# Altium integrated library NSC Power Mgt Switching Regulator.IntLib: 201 symbols (part 1 of 4)
Pins are listed as number, name and electrical type; pins without a type are passive.

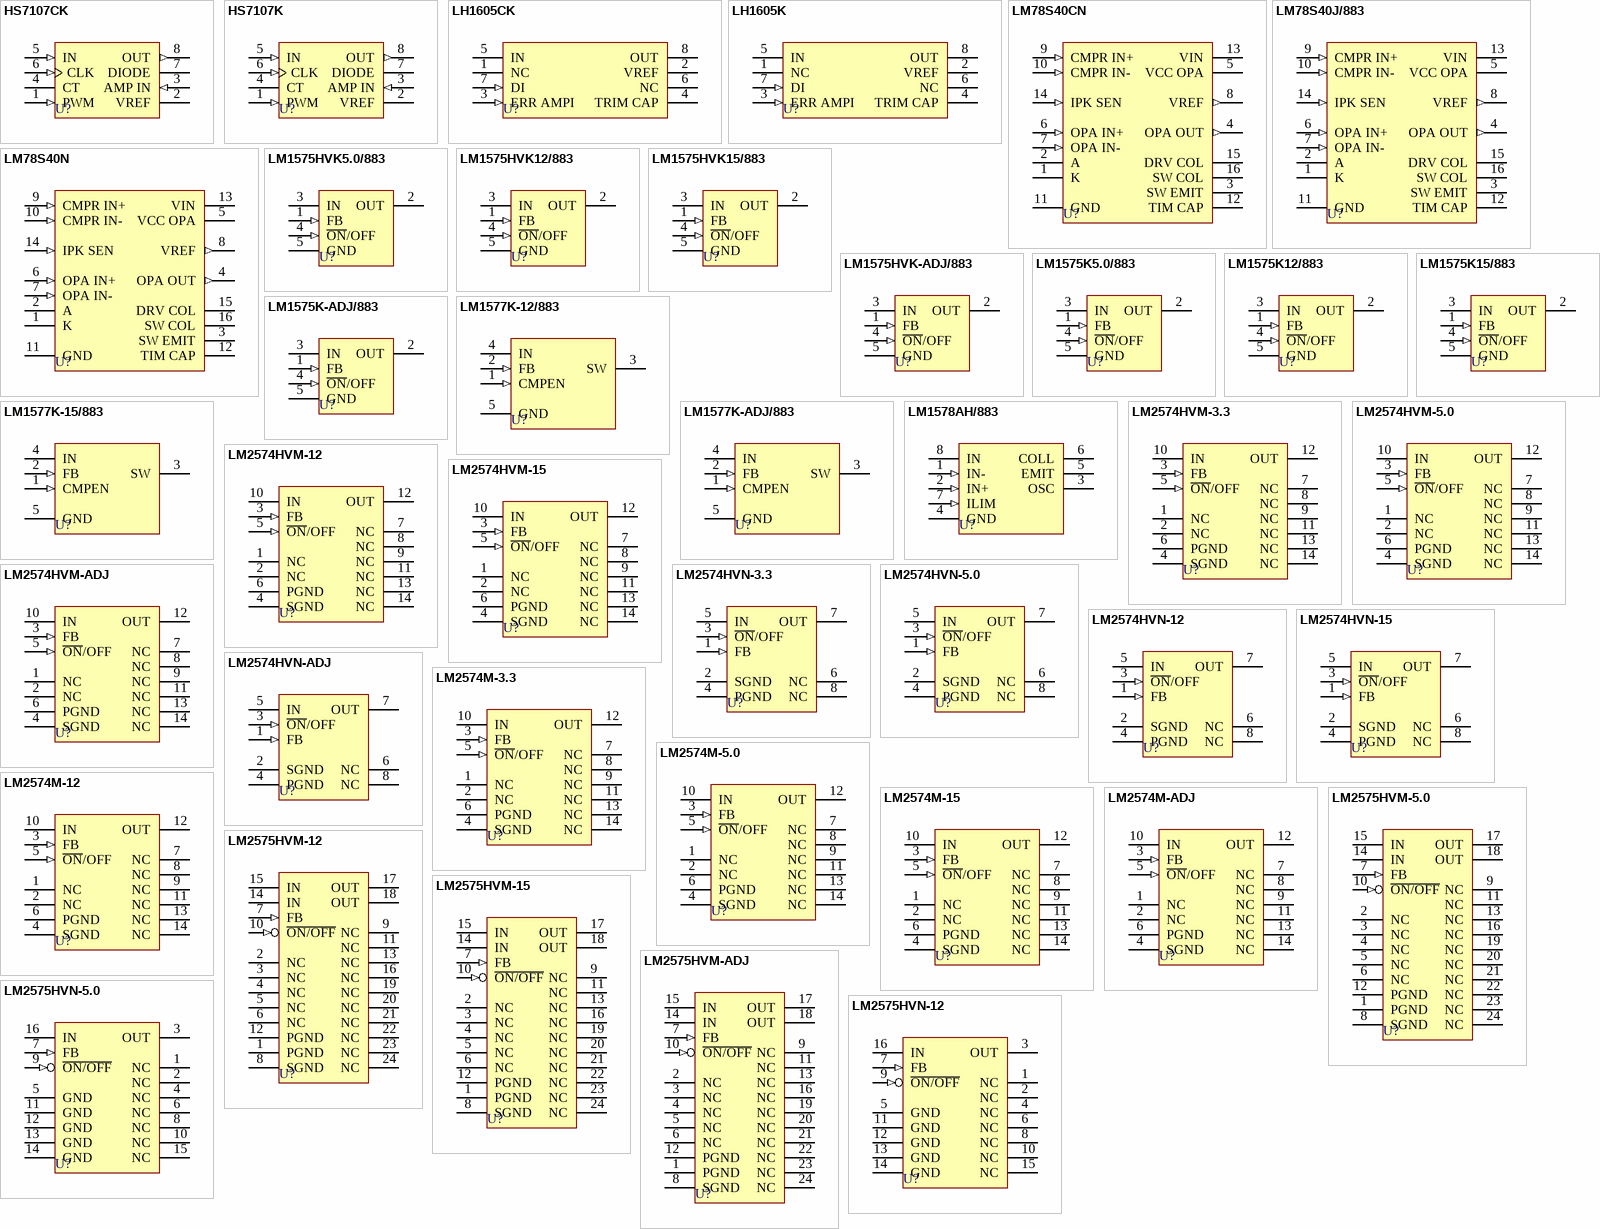
[diagram p0: symbols HS7107CK to LM2575HVN-12]

## HS7107CK
designator U?
7 Amp, Multimode, High Efficiency Switching Regulator; ComponentAvailability: Obsolete; Published: 15-Apr-2002; DatasheetVersion: 1989; PackageReference: K08A; Publisher: Altium Limited; PackageDescription: Oval Flange Mount; 8 Leads; Pin Circle Dia. 12.7 mm; Lead Dia. 1.12 mm (max); ComponentLink1Description: Manufacturer Link; ComponentLink1URL: http://www.national.com/; ComponentLink2Description: Discontinuation Notice; ComponentLink2URL: http://www.national.com/obs/obsolescence.txt
footprint K08A (Oval Flange Mount; 8 Leads; Pin Circle Dia. 12.7 mm; Lead Dia. 1.12 mm (max))
pins: 1 PWM (in), 2 VREF, 3 AMP IN (in), 4 CT, 5 IN (in), 6 CLK (in), 7 DIODE, 8 OUT (out)

## HS7107K
designator U?
7 Amp, Multimode, High Efficiency Switching Regulator; Note: Case is connected to GND; ComponentAvailability: Obsolete; Published: 15-Apr-2002; DatasheetVersion: 1989; PackageReference: K08A; Publisher: Altium Limited; PackageDescription: Oval Flange Mount; 8 Leads; Pin Circle Dia. 12.7 mm; Lead Dia. 1.12 mm (max); ComponentLink1Description: Manufacturer Link; ComponentLink1URL: http://www.national.com/; ComponentLink2Description: Discontinuation Notice; ComponentLink2URL: http://www.national.com/obs/obsolescence.txt
footprint K08A (Oval Flange Mount; 8 Leads; Pin Circle Dia. 12.7 mm; Lead Dia. 1.12 mm (max))
pins: 1 PWM (in), 2 VREF, 3 AMP IN (in), 4 CT, 5 IN (in), 6 CLK (in), 7 DIODE, 8 OUT (out)

## LH1605CK
designator U?
5 Amp, High Efficiency Switching Regulator; Note: Case is connected to GND; Published: 15-Apr-2002; DatasheetVersion: Feb-1995; PackageReference: K08A; Publisher: Altium Limited; PackageDescription: Oval Flange Mount; 8 Leads; Pin Circle Dia. 12.7 mm; Lead Dia. 1.12 mm (max); ComponentLink1Description: Manufacturer Link; ComponentLink1URL: http://www.national.com/
footprint K08A (Oval Flange Mount; 8 Leads; Pin Circle Dia. 12.7 mm; Lead Dia. 1.12 mm (max))
pins: 1 NC, 2 VREF, 3 ERR AMPI (in), 4 TRIM CAP, 5 IN (power), 6 NC, 7 DI (in), 8 OUT (power)

## LH1605K
designator U?
5 Amp, High Efficiency Switching Regulator; Note: Case is connected to GND; Published: 15-Apr-2002; DatasheetVersion: Feb-1995; PackageReference: K08A; Publisher: Altium Limited; PackageDescription: Oval Flange Mount; 8 Leads; Pin Circle Dia. 12.7 mm; Lead Dia. 1.12 mm (max); ComponentLink1Description: Manufacturer Link; ComponentLink1URL: http://www.national.com/
footprint K08A (Oval Flange Mount; 8 Leads; Pin Circle Dia. 12.7 mm; Lead Dia. 1.12 mm (max))
pins: 1 NC, 2 VREF, 3 ERR AMPI (in), 4 TRIM CAP, 5 IN (power), 6 NC, 7 DI (in), 8 OUT (power)

## LM78S40CN
designator U?
Universal Switching Regulator Subsystem; Published: 15-Apr-2002; LatestRevisionDate: 06-Jun-2005; LatestRevisionNote: Stylized 3D Model Added.; DatasheetVersion: Apr-1998; PackageVersion: 2000; PackageReference: N16E; Publisher: Altium Limited; PackageDescription: DIP; 16 Leads; Row Spacing 7.62 mm; Pitch 2.54 mm; ComponentLink1Description: Manufacturer Link; ComponentLink1URL: http://www.national.com/; ComponentLink2Description: Datasheet; ComponentLink2URL: http://www.national.com/ds.cgi/LM/LM78S40.pdf; ComponentLink3Description: URL Link1; ComponentLink3URL: http://www.national.com/pf/LM/LM78S40.html
footprint N16E (DIP; 16 Leads; Row Spacing 7.62 mm; Pitch 2.54 mm)
3D model N16E (DIP; 16 Leads; Row Spacing 7.62 mm; Pitch 2.54 mm)
pins: 1 K, 2 A, 3 SW EMIT, 4 OPA OUT (out), 5 VCC OPA (power), 6 OPA IN+ (in), 7 OPA IN- (in), 8 VREF (out), 9 CMPR IN+ (in), 10 CMPR IN- (in), 11 GND (power), 12 TIM CAP, 13 VIN (power), 14 IPK SEN (in), 15 DRV COL (oc), 16 SW COL (oc)

## LM78S40J/883
designator U?
Universal Switching Regulator Subsystem; Published: 15-Apr-2002; LatestRevisionDate: 06-Jun-2005; LatestRevisionNote: Stylized 3D Model Added.; DatasheetVersion: Apr-1998; PackageVersion: 2000; PackageReference: J16A; Publisher: Altium Limited; PackageDescription: DIP; 16 Leads; Row Spacing 7.62 mm; Pitch 2.54 mm; ComponentLink1Description: Manufacturer Link; ComponentLink1URL: http://www.national.com/; ComponentLink2Description: Datasheet; ComponentLink2URL: http://www.national.com/ds.cgi/LM/LM78S40.pdf; ComponentLink3Description: URL Link1; ComponentLink3URL: http://www.national.com/pf/LM/LM78S40.html
footprint J16A (DIP; 16 Leads; Row Spacing 7.62 mm; Pitch 2.54 mm)
3D model N16E (DIP; 16 Leads; Row Spacing 7.62 mm; Pitch 2.54 mm)
pins: 1 K, 2 A, 3 SW EMIT, 4 OPA OUT (out), 5 VCC OPA (power), 6 OPA IN+ (in), 7 OPA IN- (in), 8 VREF (out), 9 CMPR IN+ (in), 10 CMPR IN- (in), 11 GND (power), 12 TIM CAP, 13 VIN (power), 14 IPK SEN (in), 15 DRV COL (oc), 16 SW COL (oc)

## LM78S40N
designator U?
Universal Switching Regulator Subsystem; Published: 15-Apr-2002; LatestRevisionDate: 06-Jun-2005; LatestRevisionNote: Stylized 3D Model Added.; DatasheetVersion: Apr-1998; PackageVersion: 2000; PackageReference: N16E; Publisher: Altium Limited; PackageDescription: DIP; 16 Leads; Row Spacing 7.62 mm; Pitch 2.54 mm; ComponentLink1Description: Manufacturer Link; ComponentLink1URL: http://www.national.com/; ComponentLink2Description: Datasheet; ComponentLink2URL: http://www.national.com/ds.cgi/LM/LM78S40.pdf; ComponentLink3Description: URL Link1; ComponentLink3URL: http://www.national.com/pf/LM/LM78S40.html
footprint N16E (DIP; 16 Leads; Row Spacing 7.62 mm; Pitch 2.54 mm)
3D model N16E (DIP; 16 Leads; Row Spacing 7.62 mm; Pitch 2.54 mm)
pins: 1 K, 2 A, 3 SW EMIT, 4 OPA OUT (out), 5 VCC OPA (power), 6 OPA IN+ (in), 7 OPA IN- (in), 8 VREF (out), 9 CMPR IN+ (in), 10 CMPR IN- (in), 11 GND (power), 12 TIM CAP, 13 VIN (power), 14 IPK SEN (in), 15 DRV COL (oc), 16 SW COL (oc)

## LM1575HVK5.0/883
designator U?
Simple Switcher 1A Step Down Voltage Regulator; Published: 15-Apr-2002; DatasheetVersion: Jan-1995; PackageVersion: 2000; PackageReference: K04A; Publisher: Altium Limited; PackageDescription: Oval Flange Mount; 4 Leads; Pin Circle Dia. 11.94 mm; Lead Dia. 1.09 mm (max); ComponentLink1Description: Manufacturer Link; ComponentLink1URL: http://www.national.com/
footprint K04A (Oval Flange Mount; 4 Leads; Pin Circle Dia. 11.94 mm; Lead Dia. 1.09 mm (max))
pins: 1 FB (in), 2 OUT (power), 3 IN (power), 4 ~{ON}/OFF (in), 5 GND (power)

## LM1575HVK12/883
designator U?
Simple Switcher 1A Step Down Voltage Regulator; Published: 15-Apr-2002; DatasheetVersion: Jan-1995; PackageVersion: 2000; PackageReference: K04A; Publisher: Altium Limited; PackageDescription: Oval Flange Mount; 4 Leads; Pin Circle Dia. 11.94 mm; Lead Dia. 1.09 mm (max); ComponentLink1Description: Manufacturer Link; ComponentLink1URL: http://www.national.com/
footprint K04A (Oval Flange Mount; 4 Leads; Pin Circle Dia. 11.94 mm; Lead Dia. 1.09 mm (max))
pins: 1 FB (in), 2 OUT (power), 3 IN (power), 4 ~{ON}/OFF (in), 5 GND (power)

## LM1575HVK15/883
designator U?
Simple Switcher 1A Step Down Voltage Regulator; Published: 15-Apr-2002; DatasheetVersion: Jan-1995; PackageVersion: 2000; PackageReference: K04A; Publisher: Altium Limited; PackageDescription: Oval Flange Mount; 4 Leads; Pin Circle Dia. 11.94 mm; Lead Dia. 1.09 mm (max); ComponentLink1Description: Manufacturer Link; ComponentLink1URL: http://www.national.com/
footprint K04A (Oval Flange Mount; 4 Leads; Pin Circle Dia. 11.94 mm; Lead Dia. 1.09 mm (max))
pins: 1 FB (in), 2 OUT (power), 3 IN (power), 4 ~{ON}/OFF (in), 5 GND (power)

## LM1575HVK-ADJ/883
designator U?
Simple Switcher 1A Step Down Voltage Regulator; Published: 15-Apr-2002; DatasheetVersion: Jan-1995; PackageVersion: 2000; PackageReference: K04A; Publisher: Altium Limited; PackageDescription: Oval Flange Mount; 4 Leads; Pin Circle Dia. 11.94 mm; Lead Dia. 1.09 mm (max); ComponentLink1Description: Manufacturer Link; ComponentLink1URL: http://www.national.com/
footprint K04A (Oval Flange Mount; 4 Leads; Pin Circle Dia. 11.94 mm; Lead Dia. 1.09 mm (max))
pins: 1 FB (in), 2 OUT (power), 3 IN (power), 4 ~{ON}/OFF (in), 5 GND (power)

## LM1575K5.0/883
designator U?
Simple Switcher 1A Step Down Voltage Regulator; Published: 15-Apr-2002; DatasheetVersion: Jan-1995; PackageVersion: 2000; PackageReference: K04A; Publisher: Altium Limited; PackageDescription: Oval Flange Mount; 4 Leads; Pin Circle Dia. 11.94 mm; Lead Dia. 1.09 mm (max); ComponentLink1Description: Manufacturer Link; ComponentLink1URL: http://www.national.com/
footprint K04A (Oval Flange Mount; 4 Leads; Pin Circle Dia. 11.94 mm; Lead Dia. 1.09 mm (max))
pins: 1 FB (in), 2 OUT (power), 3 IN (power), 4 ~{ON}/OFF (in), 5 GND (power)

## LM1575K12/883
designator U?
Simple Switcher 1A Step Down Voltage Regulator; Published: 15-Apr-2002; DatasheetVersion: Jan-1995; PackageVersion: 2000; PackageReference: K04A; Publisher: Altium Limited; PackageDescription: Oval Flange Mount; 4 Leads; Pin Circle Dia. 11.94 mm; Lead Dia. 1.09 mm (max); ComponentLink1Description: Manufacturer Link; ComponentLink1URL: http://www.national.com/
footprint K04A (Oval Flange Mount; 4 Leads; Pin Circle Dia. 11.94 mm; Lead Dia. 1.09 mm (max))
pins: 1 FB (in), 2 OUT (power), 3 IN (power), 4 ~{ON}/OFF (in), 5 GND (power)

## LM1575K15/883
designator U?
Simple Switcher 1A Step Down Voltage Regulator; Published: 15-Apr-2002; DatasheetVersion: Jan-1995; PackageVersion: 2000; PackageReference: K04A; Publisher: Altium Limited; PackageDescription: Oval Flange Mount; 4 Leads; Pin Circle Dia. 11.94 mm; Lead Dia. 1.09 mm (max); ComponentLink1Description: Manufacturer Link; ComponentLink1URL: http://www.national.com/
footprint K04A (Oval Flange Mount; 4 Leads; Pin Circle Dia. 11.94 mm; Lead Dia. 1.09 mm (max))
pins: 1 FB (in), 2 OUT (power), 3 IN (power), 4 ~{ON}/OFF (in), 5 GND (power)

## LM1575K-ADJ/883
designator U?
Simple Switcher 1A Step Down Voltage Regulator; Published: 15-Apr-2002; DatasheetVersion: Jan-1995; PackageVersion: 2000; PackageReference: K04A; Publisher: Altium Limited; PackageDescription: Oval Flange Mount; 4 Leads; Pin Circle Dia. 11.94 mm; Lead Dia. 1.09 mm (max); ComponentLink1Description: Manufacturer Link; ComponentLink1URL: http://www.national.com/
footprint K04A (Oval Flange Mount; 4 Leads; Pin Circle Dia. 11.94 mm; Lead Dia. 1.09 mm (max))
pins: 1 FB (in), 2 OUT (power), 3 IN (power), 4 ~{ON}/OFF (in), 5 GND (power)

## LM1577K-12/883
designator U?
Simple Switcher Step-Up Voltage Regulator; Note: Case is connected to GND; Published: 15-Apr-2002; DatasheetVersion: Jun-1999; PackageVersion: 2000; PackageReference: K04A; Publisher: Altium Limited; PackageDescription: Oval Flange Mount; 4 Leads; Pin Circle Dia. 11.94 mm; Lead Dia. 1.09 mm (max); ComponentLink1Description: Manufacturer Link; ComponentLink1URL: http://www.national.com/; ComponentLink2Description: Datasheet; ComponentLink2URL: http://www.national.com/ds.cgi/LM/LM1577.pdf; ComponentLink3Description: URL Link1; ComponentLink3URL: http://www.national.com/pf/LM/LM1577.html
footprint K04A (Oval Flange Mount; 4 Leads; Pin Circle Dia. 11.94 mm; Lead Dia. 1.09 mm (max))
pins: 1 CMPEN (in), 2 FB (in), 3 SW (power), 4 IN (power), 5 GND (power)

## LM1577K-15/883
designator U?
Simple Switcher Step-Up Voltage Regulator; Note: Case is connected to GND; Published: 15-Apr-2002; DatasheetVersion: Jun-1999; PackageVersion: 2000; PackageReference: K04A; Publisher: Altium Limited; PackageDescription: Oval Flange Mount; 4 Leads; Pin Circle Dia. 11.94 mm; Lead Dia. 1.09 mm (max); ComponentLink1Description: Manufacturer Link; ComponentLink1URL: http://www.national.com/; ComponentLink2Description: Datasheet; ComponentLink2URL: http://www.national.com/ds.cgi/LM/LM1577.pdf; ComponentLink3Description: URL Link1; ComponentLink3URL: http://www.national.com/pf/LM/LM1577.html
footprint K04A (Oval Flange Mount; 4 Leads; Pin Circle Dia. 11.94 mm; Lead Dia. 1.09 mm (max))
pins: 1 CMPEN (in), 2 FB (in), 3 SW (power), 4 IN (power), 5 GND (power)

## LM1577K-ADJ/883
designator U?
Simple Switcher Step-Up Voltage Regulator; Note: Case is connected to GND; Published: 15-Apr-2002; DatasheetVersion: Jun-1999; PackageVersion: 2000; PackageReference: K04A; Publisher: Altium Limited; PackageDescription: Oval Flange Mount; 4 Leads; Pin Circle Dia. 11.94 mm; Lead Dia. 1.09 mm (max); ComponentLink1Description: Manufacturer Link; ComponentLink1URL: http://www.national.com/; ComponentLink2Description: Datasheet; ComponentLink2URL: http://www.national.com/ds.cgi/LM/LM1577.pdf; ComponentLink3Description: URL Link1; ComponentLink3URL: http://www.national.com/pf/LM/LM1577.html
footprint K04A (Oval Flange Mount; 4 Leads; Pin Circle Dia. 11.94 mm; Lead Dia. 1.09 mm (max))
pins: 1 CMPEN (in), 2 FB (in), 3 SW (power), 4 IN (power), 5 GND (power)

## LM1578AH/883
designator U?
Switching Regulator; ComponentAvailability: Obsolete; Published: 15-Apr-2002; DatasheetVersion: Apr-1998; PackageVersion: 2000; PackageReference: H08C; Publisher: Altium Limited; PackageDescription: Can; 8 Leads; Pin Circle Dia. 5.08 mm; Lead Dia. 0.48 mm (max); ComponentLink1Description: Manufacturer Link; ComponentLink1URL: http://www.national.com/; ComponentLink2Description: Discontinuation Notice; ComponentLink2URL: http://www.national.com/obs/obsolescence.txt
footprint H08C (Can; 8 Leads; Pin Circle Dia. 5.08 mm; Lead Dia. 0.48 mm (max))
pins: 1 IN- (in), 2 IN+ (in), 3 OSC, 4 GND (power), 5 EMIT (power), 6 COLL (power), 7 ILIM (in), 8 IN (power)

## LM2574HVM-3.3
designator U?
Simple Switcher 0.5A Step Down Voltage Regulator; Published: 15-Apr-2002; LatestRevisionDate: 13-Apr-2006; LatestRevisionNote: IPC-7351 Footprint Added.; DatasheetVersion: Jun-1999; PackageVersion: 2000; PackageReference: M14B; Publisher: Altium Limited; PackageDescription: 14-Pin Small Outline Integrated Circuit 1.27 mm Pitch; Code_JEDEC: MS-013-AF; Code_IPC: SOIC127P1030-14; ComponentLink1Description: Manufacturer Link; ComponentLink1URL: http://www.national.com/; ComponentLink2Description: Datasheet; ComponentLink2URL: http://www.national.com/ds.cgi/LM/LM2574.pdf; ComponentLink3Description: URL Link1; ComponentLink3URL: http://www.national.com/pf/LM/LM2574HV.html
footprint M14B_N (SOIC, 14-Leads, Body 9x7.5mm, Pitch 1.27mm, IPC Medium Density)
footprint M14B_L (SOIC, 14-Leads, Body 9x7.5mm, Pitch 1.27mm, IPC High Density)
footprint M14B_M (SOIC, 14-Leads, Body 9x7.5mm, Pitch 1.27mm, IPC Low Density)
3D model M14B (14-Pin Small Outline Integrated Circuit 1.27 mm Pitch)
pins: 1 NC, 2 NC, 3 FB (in), 4 SGND (power), 5 ~{ON}/OFF (in), 6 PGND (power), 7 NC, 8 NC, 9 NC, 10 IN (power), 11 NC, 12 OUT (power), 13 NC, 14 NC

## LM2574HVM-5.0
designator U?
Simple Switcher 0.5A Step Down Voltage Regulator; Published: 15-Apr-2002; LatestRevisionDate: 13-Apr-2006; LatestRevisionNote: IPC-7351 Footprint Added.; DatasheetVersion: Jun-1999; PackageVersion: 2000; PackageReference: M14B; Publisher: Altium Limited; PackageDescription: 14-Pin Small Outline Integrated Circuit 1.27 mm Pitch; Code_JEDEC: MS-013-AF; Code_IPC: SOIC127P1030-14; ComponentLink1Description: Manufacturer Link; ComponentLink1URL: http://www.national.com/; ComponentLink2Description: Datasheet; ComponentLink2URL: http://www.national.com/ds.cgi/LM/LM2574.pdf; ComponentLink3Description: URL Link1; ComponentLink3URL: http://www.national.com/pf/LM/LM2574HV.html
footprint M14B_N (SOIC, 14-Leads, Body 9x7.5mm, Pitch 1.27mm, IPC Medium Density)
footprint M14B_L (SOIC, 14-Leads, Body 9x7.5mm, Pitch 1.27mm, IPC High Density)
footprint M14B_M (SOIC, 14-Leads, Body 9x7.5mm, Pitch 1.27mm, IPC Low Density)
3D model M14B (14-Pin Small Outline Integrated Circuit 1.27 mm Pitch)
pins: 1 NC, 2 NC, 3 FB (in), 4 SGND (power), 5 ~{ON}/OFF (in), 6 PGND (power), 7 NC, 8 NC, 9 NC, 10 IN (power), 11 NC, 12 OUT (power), 13 NC, 14 NC

## LM2574HVM-12
designator U?
Simple Switcher 0.5A Step Down Voltage Regulator; Published: 15-Apr-2002; LatestRevisionDate: 13-Apr-2006; LatestRevisionNote: IPC-7351 Footprint Added.; DatasheetVersion: Jun-1999; PackageVersion: 2000; PackageReference: M14B; Publisher: Altium Limited; PackageDescription: 14-Pin Small Outline Integrated Circuit 1.27 mm Pitch; Code_JEDEC: MS-013-AF; Code_IPC: SOIC127P1030-14; ComponentLink1Description: Manufacturer Link; ComponentLink1URL: http://www.national.com/; ComponentLink2Description: Datasheet; ComponentLink2URL: http://www.national.com/ds.cgi/LM/LM2574.pdf; ComponentLink3Description: URL Link1; ComponentLink3URL: http://www.national.com/pf/LM/LM2574HV.html
footprint M14B_N (SOIC, 14-Leads, Body 9x7.5mm, Pitch 1.27mm, IPC Medium Density)
footprint M14B_L (SOIC, 14-Leads, Body 9x7.5mm, Pitch 1.27mm, IPC High Density)
footprint M14B_M (SOIC, 14-Leads, Body 9x7.5mm, Pitch 1.27mm, IPC Low Density)
3D model M14B (14-Pin Small Outline Integrated Circuit 1.27 mm Pitch)
pins: 1 NC, 2 NC, 3 FB (in), 4 SGND (power), 5 ~{ON}/OFF (in), 6 PGND (power), 7 NC, 8 NC, 9 NC, 10 IN (power), 11 NC, 12 OUT (power), 13 NC, 14 NC

## LM2574HVM-15
designator U?
Simple Switcher 0.5A Step Down Voltage Regulator; Published: 15-Apr-2002; LatestRevisionDate: 13-Apr-2006; LatestRevisionNote: IPC-7351 Footprint Added.; DatasheetVersion: Jun-1999; PackageVersion: 2000; PackageReference: M14B; Publisher: Altium Limited; PackageDescription: 14-Pin Small Outline Integrated Circuit 1.27 mm Pitch; Code_JEDEC: MS-013-AF; Code_IPC: SOIC127P1030-14; ComponentLink1Description: Manufacturer Link; ComponentLink1URL: http://www.national.com/; ComponentLink2Description: Datasheet; ComponentLink2URL: http://www.national.com/ds.cgi/LM/LM2574.pdf; ComponentLink3Description: URL Link1; ComponentLink3URL: http://www.national.com/pf/LM/LM2574HV.html
footprint M14B_N (SOIC, 14-Leads, Body 9x7.5mm, Pitch 1.27mm, IPC Medium Density)
footprint M14B_L (SOIC, 14-Leads, Body 9x7.5mm, Pitch 1.27mm, IPC High Density)
footprint M14B_M (SOIC, 14-Leads, Body 9x7.5mm, Pitch 1.27mm, IPC Low Density)
3D model M14B (14-Pin Small Outline Integrated Circuit 1.27 mm Pitch)
pins: 1 NC, 2 NC, 3 FB (in), 4 SGND (power), 5 ~{ON}/OFF (in), 6 PGND (power), 7 NC, 8 NC, 9 NC, 10 IN (power), 11 NC, 12 OUT (power), 13 NC, 14 NC

## LM2574HVM-ADJ
designator U?
Simple Switcher 0.5A Step Down Voltage Regulator; Published: 15-Apr-2002; LatestRevisionDate: 13-Apr-2006; LatestRevisionNote: IPC-7351 Footprint Added.; DatasheetVersion: Jun-1999; PackageVersion: 2000; PackageReference: M14B; Publisher: Altium Limited; PackageDescription: 14-Pin Small Outline Integrated Circuit 1.27 mm Pitch; Code_JEDEC: MS-013-AF; Code_IPC: SOIC127P1030-14; ComponentLink1Description: Manufacturer Link; ComponentLink1URL: http://www.national.com/; ComponentLink2Description: Datasheet; ComponentLink2URL: http://www.national.com/ds.cgi/LM/LM2574.pdf; ComponentLink3Description: URL Link1; ComponentLink3URL: http://www.national.com/pf/LM/LM2574HV.html
footprint M14B_N (SOIC, 14-Leads, Body 9x7.5mm, Pitch 1.27mm, IPC Medium Density)
footprint M14B_L (SOIC, 14-Leads, Body 9x7.5mm, Pitch 1.27mm, IPC High Density)
footprint M14B_M (SOIC, 14-Leads, Body 9x7.5mm, Pitch 1.27mm, IPC Low Density)
3D model M14B (14-Pin Small Outline Integrated Circuit 1.27 mm Pitch)
pins: 1 NC, 2 NC, 3 FB (in), 4 SGND (power), 5 ~{ON}/OFF (in), 6 PGND (power), 7 NC, 8 NC, 9 NC, 10 IN (power), 11 NC, 12 OUT (power), 13 NC, 14 NC

## LM2574HVN-3.3
designator U?
Simple Switcher 0.5A Step Down Voltage Regulator; Published: 15-Apr-2002; LatestRevisionDate: 06-Jun-2005; LatestRevisionNote: Stylized 3D Model Added.; DatasheetVersion: Jun-1999; PackageVersion: Sep-1997; PackageReference: N08E; Publisher: Altium Limited; PackageDescription: DIP; 8 Leads; Row Spacing 7.62 mm; Pitch 2.54 mm; ComponentLink1Description: Manufacturer Link; ComponentLink1URL: http://www.national.com/; ComponentLink2Description: Datasheet; ComponentLink2URL: http://www.national.com/ds.cgi/LM/LM2574.pdf; ComponentLink3Description: URL Link1; ComponentLink3URL: http://www.national.com/pf/LM/LM2574HV.html
footprint N08E (DIP; 8 Leads; Row Spacing 7.62 mm; Pitch 2.54 mm)
3D model N08E (DIP; 8 Leads; Row Spacing 7.62 mm; Pitch 2.54 mm)
pins: 1 FB (in), 2 SGND (power), 3 ~{ON}/OFF (in), 4 PGND (power), 5 IN (power), 6 NC, 7 OUT (power), 8 NC

## LM2574HVN-5.0
designator U?
Simple Switcher 0.5A Step Down Voltage Regulator; Published: 15-Apr-2002; LatestRevisionDate: 06-Jun-2005; LatestRevisionNote: Stylized 3D Model Added.; DatasheetVersion: Jun-1999; PackageVersion: Sep-1997; PackageReference: N08E; Publisher: Altium Limited; PackageDescription: DIP; 8 Leads; Row Spacing 7.62 mm; Pitch 2.54 mm; ComponentLink1Description: Manufacturer Link; ComponentLink1URL: http://www.national.com/; ComponentLink2Description: Datasheet; ComponentLink2URL: http://www.national.com/ds.cgi/LM/LM2574.pdf; ComponentLink3Description: URL Link1; ComponentLink3URL: http://www.national.com/pf/LM/LM2574HV.html
footprint N08E (DIP; 8 Leads; Row Spacing 7.62 mm; Pitch 2.54 mm)
3D model N08E (DIP; 8 Leads; Row Spacing 7.62 mm; Pitch 2.54 mm)
pins: 1 FB (in), 2 SGND (power), 3 ~{ON}/OFF (in), 4 PGND (power), 5 IN (power), 6 NC, 7 OUT (power), 8 NC

## LM2574HVN-12
designator U?
Simple Switcher 0.5A Step Down Voltage Regulator; Published: 15-Apr-2002; LatestRevisionDate: 06-Jun-2005; LatestRevisionNote: Stylized 3D Model Added.; DatasheetVersion: Jun-1999; PackageVersion: Sep-1997; PackageReference: N08E; Publisher: Altium Limited; PackageDescription: DIP; 8 Leads; Row Spacing 7.62 mm; Pitch 2.54 mm; ComponentLink1Description: Manufacturer Link; ComponentLink1URL: http://www.national.com/; ComponentLink2Description: Datasheet; ComponentLink2URL: http://www.national.com/ds.cgi/LM/LM2574.pdf; ComponentLink3Description: URL Link1; ComponentLink3URL: http://www.national.com/pf/LM/LM2574HV.html
footprint N08E (DIP; 8 Leads; Row Spacing 7.62 mm; Pitch 2.54 mm)
3D model N08E (DIP; 8 Leads; Row Spacing 7.62 mm; Pitch 2.54 mm)
pins: 1 FB (in), 2 SGND (power), 3 ~{ON}/OFF (in), 4 PGND (power), 5 IN (power), 6 NC, 7 OUT (power), 8 NC

## LM2574HVN-15
designator U?
Simple Switcher 0.5A Step Down Voltage Regulator; Published: 15-Apr-2002; LatestRevisionDate: 06-Jun-2005; LatestRevisionNote: Stylized 3D Model Added.; DatasheetVersion: Jun-1999; PackageVersion: Sep-1997; PackageReference: N08E; Publisher: Altium Limited; PackageDescription: DIP; 8 Leads; Row Spacing 7.62 mm; Pitch 2.54 mm; ComponentLink1Description: Manufacturer Link; ComponentLink1URL: http://www.national.com/; ComponentLink2Description: Datasheet; ComponentLink2URL: http://www.national.com/ds.cgi/LM/LM2574.pdf; ComponentLink3Description: URL Link1; ComponentLink3URL: http://www.national.com/pf/LM/LM2574HV.html
footprint N08E (DIP; 8 Leads; Row Spacing 7.62 mm; Pitch 2.54 mm)
3D model N08E (DIP; 8 Leads; Row Spacing 7.62 mm; Pitch 2.54 mm)
pins: 1 FB (in), 2 SGND (power), 3 ~{ON}/OFF (in), 4 PGND (power), 5 IN (power), 6 NC, 7 OUT (power), 8 NC

## LM2574HVN-ADJ
designator U?
Simple Switcher 0.5A Step Down Voltage Regulator; Published: 15-Apr-2002; LatestRevisionDate: 06-Jun-2005; LatestRevisionNote: Stylized 3D Model Added.; DatasheetVersion: Jun-1999; PackageVersion: Sep-1997; PackageReference: N08E; Publisher: Altium Limited; PackageDescription: DIP; 8 Leads; Row Spacing 7.62 mm; Pitch 2.54 mm; ComponentLink1Description: Manufacturer Link; ComponentLink1URL: http://www.national.com/; ComponentLink2Description: Datasheet; ComponentLink2URL: http://www.national.com/ds.cgi/LM/LM2574.pdf; ComponentLink3Description: URL Link1; ComponentLink3URL: http://www.national.com/pf/LM/LM2574HV.html
footprint N08E (DIP; 8 Leads; Row Spacing 7.62 mm; Pitch 2.54 mm)
3D model N08E (DIP; 8 Leads; Row Spacing 7.62 mm; Pitch 2.54 mm)
pins: 1 FB (in), 2 SGND (power), 3 ~{ON}/OFF (in), 4 PGND (power), 5 IN (power), 6 NC, 7 OUT (power), 8 NC

## LM2574M-3.3
designator U?
Simple Switcher 0.5A Step Down Voltage Regulator; Published: 15-Apr-2002; LatestRevisionDate: 13-Apr-2006; LatestRevisionNote: IPC-7351 Footprint Added.; DatasheetVersion: Jun-1999; PackageVersion: 2000; PackageReference: M14B; Publisher: Altium Limited; PackageDescription: 14-Pin Small Outline Integrated Circuit 1.27 mm Pitch; Code_JEDEC: MS-013-AF; Code_IPC: SOIC127P1030-14; ComponentLink1Description: Manufacturer Link; ComponentLink1URL: http://www.national.com/; ComponentLink2Description: Datasheet; ComponentLink2URL: http://www.national.com/ds.cgi/LM/LM2574.pdf; ComponentLink3Description: URL Link1; ComponentLink3URL: http://www.national.com/pf/LM/LM2574.html
footprint M14B_N (SOIC, 14-Leads, Body 9x7.5mm, Pitch 1.27mm, IPC Medium Density)
footprint M14B_L (SOIC, 14-Leads, Body 9x7.5mm, Pitch 1.27mm, IPC High Density)
footprint M14B_M (SOIC, 14-Leads, Body 9x7.5mm, Pitch 1.27mm, IPC Low Density)
3D model M14B (14-Pin Small Outline Integrated Circuit 1.27 mm Pitch)
pins: 1 NC, 2 NC, 3 FB (in), 4 SGND (power), 5 ~{ON}/OFF (in), 6 PGND (power), 7 NC, 8 NC, 9 NC, 10 IN (power), 11 NC, 12 OUT (power), 13 NC, 14 NC

## LM2574M-5.0
designator U?
Simple Switcher 0.5A Step Down Voltage Regulator; Published: 15-Apr-2002; LatestRevisionDate: 13-Apr-2006; LatestRevisionNote: IPC-7351 Footprint Added.; DatasheetVersion: Jun-1999; PackageVersion: 2000; PackageReference: M14B; Publisher: Altium Limited; PackageDescription: 14-Pin Small Outline Integrated Circuit 1.27 mm Pitch; Code_JEDEC: MS-013-AF; Code_IPC: SOIC127P1030-14; ComponentLink1Description: Manufacturer Link; ComponentLink1URL: http://www.national.com/; ComponentLink2Description: Datasheet; ComponentLink2URL: http://www.national.com/ds.cgi/LM/LM2574.pdf; ComponentLink3Description: URL Link1; ComponentLink3URL: http://www.national.com/pf/LM/LM2574.html
footprint M14B_N (SOIC, 14-Leads, Body 9x7.5mm, Pitch 1.27mm, IPC Medium Density)
footprint M14B_L (SOIC, 14-Leads, Body 9x7.5mm, Pitch 1.27mm, IPC High Density)
footprint M14B_M (SOIC, 14-Leads, Body 9x7.5mm, Pitch 1.27mm, IPC Low Density)
3D model M14B (14-Pin Small Outline Integrated Circuit 1.27 mm Pitch)
pins: 1 NC, 2 NC, 3 FB (in), 4 SGND (power), 5 ~{ON}/OFF (in), 6 PGND (power), 7 NC, 8 NC, 9 NC, 10 IN (power), 11 NC, 12 OUT (power), 13 NC, 14 NC

## LM2574M-12
designator U?
Simple Switcher 0.5A Step Down Voltage Regulator; Published: 15-Apr-2002; LatestRevisionDate: 13-Apr-2006; LatestRevisionNote: IPC-7351 Footprint Added.; DatasheetVersion: Jun-1999; PackageVersion: 2000; PackageReference: M14B; Publisher: Altium Limited; PackageDescription: 14-Pin Small Outline Integrated Circuit 1.27 mm Pitch; Code_JEDEC: MS-013-AF; Code_IPC: SOIC127P1030-14; ComponentLink1Description: Manufacturer Link; ComponentLink1URL: http://www.national.com/; ComponentLink2Description: Datasheet; ComponentLink2URL: http://www.national.com/ds.cgi/LM/LM2574.pdf; ComponentLink3Description: URL Link1; ComponentLink3URL: http://www.national.com/pf/LM/LM2574.html
footprint M14B_N (SOIC, 14-Leads, Body 9x7.5mm, Pitch 1.27mm, IPC Medium Density)
footprint M14B_L (SOIC, 14-Leads, Body 9x7.5mm, Pitch 1.27mm, IPC High Density)
footprint M14B_M (SOIC, 14-Leads, Body 9x7.5mm, Pitch 1.27mm, IPC Low Density)
3D model M14B (14-Pin Small Outline Integrated Circuit 1.27 mm Pitch)
pins: 1 NC, 2 NC, 3 FB (in), 4 SGND (power), 5 ~{ON}/OFF (in), 6 PGND (power), 7 NC, 8 NC, 9 NC, 10 IN (power), 11 NC, 12 OUT (power), 13 NC, 14 NC

## LM2574M-15
designator U?
Simple Switcher 0.5A Step Down Voltage Regulator; Published: 15-Apr-2002; LatestRevisionDate: 13-Apr-2006; LatestRevisionNote: IPC-7351 Footprint Added.; DatasheetVersion: Jun-1999; PackageVersion: 2000; PackageReference: M14B; Publisher: Altium Limited; PackageDescription: 14-Pin Small Outline Integrated Circuit 1.27 mm Pitch; Code_JEDEC: MS-013-AF; Code_IPC: SOIC127P1030-14; ComponentLink1Description: Manufacturer Link; ComponentLink1URL: http://www.national.com/; ComponentLink2Description: Datasheet; ComponentLink2URL: http://www.national.com/ds.cgi/LM/LM2574.pdf; ComponentLink3Description: URL Link1; ComponentLink3URL: http://www.national.com/pf/LM/LM2574.html
footprint M14B_N (SOIC, 14-Leads, Body 9x7.5mm, Pitch 1.27mm, IPC Medium Density)
footprint M14B_L (SOIC, 14-Leads, Body 9x7.5mm, Pitch 1.27mm, IPC High Density)
footprint M14B_M (SOIC, 14-Leads, Body 9x7.5mm, Pitch 1.27mm, IPC Low Density)
3D model M14B (14-Pin Small Outline Integrated Circuit 1.27 mm Pitch)
pins: 1 NC, 2 NC, 3 FB (in), 4 SGND (power), 5 ~{ON}/OFF (in), 6 PGND (power), 7 NC, 8 NC, 9 NC, 10 IN (power), 11 NC, 12 OUT (power), 13 NC, 14 NC

## LM2574M-ADJ
designator U?
Simple Switcher 0.5A Step Down Voltage Regulator; Published: 15-Apr-2002; LatestRevisionDate: 13-Apr-2006; LatestRevisionNote: IPC-7351 Footprint Added.; DatasheetVersion: Jun-1999; PackageVersion: 2000; PackageReference: M14B; Publisher: Altium Limited; PackageDescription: 14-Pin Small Outline Integrated Circuit 1.27 mm Pitch; Code_JEDEC: MS-013-AF; Code_IPC: SOIC127P1030-14; ComponentLink1Description: Manufacturer Link; ComponentLink1URL: http://www.national.com/; ComponentLink2Description: Datasheet; ComponentLink2URL: http://www.national.com/ds.cgi/LM/LM2574.pdf; ComponentLink3Description: URL Link1; ComponentLink3URL: http://www.national.com/pf/LM/LM2574.html
footprint M14B_N (SOIC, 14-Leads, Body 9x7.5mm, Pitch 1.27mm, IPC Medium Density)
footprint M14B_L (SOIC, 14-Leads, Body 9x7.5mm, Pitch 1.27mm, IPC High Density)
footprint M14B_M (SOIC, 14-Leads, Body 9x7.5mm, Pitch 1.27mm, IPC Low Density)
3D model M14B (14-Pin Small Outline Integrated Circuit 1.27 mm Pitch)
pins: 1 NC, 2 NC, 3 FB (in), 4 SGND (power), 5 ~{ON}/OFF (in), 6 PGND (power), 7 NC, 8 NC, 9 NC, 10 IN (power), 11 NC, 12 OUT (power), 13 NC, 14 NC

## LM2575HVM-5.0
designator U?
Simple Switcher 1A Step Down Voltage Regulator; Published: 15-Apr-2002; LatestRevisionDate: 13-Apr-2006; LatestRevisionNote: IPC-7351 Footprint Added.; DatasheetVersion: May-1999; PackageVersion: 2000; PackageReference: M24B; Publisher: Altium Limited; PackageDescription: 24-Pin Small Outline Integrated Circuit 1.27 mm Pitch; ComponentLink1Description: Manufacturer Link; ComponentLink1URL: http://www.national.com/; ComponentLink2Description: Datasheet; ComponentLink2URL: http://www.national.com/ds.cgi/LM/LM1575.pdf; ComponentLink3Description: URL Link1; ComponentLink3URL: http://www.national.com/pf/LM/LM2575HV.html
footprint M24B_N (SOIC, 24-Leads, Body 15.4x7.5mm, Pitch 1.27mm, IPC Medium Density)
footprint M24B_L (SOIC, 24-Leads, Body 15.4x7.5mm, Pitch 1.27mm, IPC High Density)
footprint M24B_M (SOIC, 24-Leads, Body 15.4x7.5mm, Pitch 1.27mm, IPC Low Density)
3D model M24B (24-Pin Small Outline Integrated Circuit 1.27 mm Pitch)
pins: 1 PGND (power), 2 NC, 3 NC, 4 NC, 5 NC, 6 NC, 7 FB (in), 8 SGND (power), 9 NC, 10 ~{ON/OFF} (in), 11 NC, 12 PGND (power), 13 NC, 14 IN (power), 15 IN (power), 16 NC, 17 OUT (power), 18 OUT (power), 19 NC, 20 NC, 21 NC, 22 NC, 23 NC, 24 NC

## LM2575HVM-12
designator U?
Simple Switcher 1A Step Down Voltage Regulator; Published: 15-Apr-2002; LatestRevisionDate: 13-Apr-2006; LatestRevisionNote: IPC-7351 Footprint Added.; DatasheetVersion: May-1999; PackageVersion: 2000; PackageReference: M24B; Publisher: Altium Limited; PackageDescription: 24-Pin Small Outline Integrated Circuit 1.27 mm Pitch; ComponentLink1Description: Manufacturer Link; ComponentLink1URL: http://www.national.com/; ComponentLink2Description: Datasheet; ComponentLink2URL: http://www.national.com/ds.cgi/LM/LM1575.pdf; ComponentLink3Description: URL Link1; ComponentLink3URL: http://www.national.com/pf/LM/LM2575HV.html
footprint M24B_N (SOIC, 24-Leads, Body 15.4x7.5mm, Pitch 1.27mm, IPC Medium Density)
footprint M24B_L (SOIC, 24-Leads, Body 15.4x7.5mm, Pitch 1.27mm, IPC High Density)
footprint M24B_M (SOIC, 24-Leads, Body 15.4x7.5mm, Pitch 1.27mm, IPC Low Density)
3D model M24B (24-Pin Small Outline Integrated Circuit 1.27 mm Pitch)
pins: 1 PGND (power), 2 NC, 3 NC, 4 NC, 5 NC, 6 NC, 7 FB (in), 8 SGND (power), 9 NC, 10 ~{ON/OFF} (in), 11 NC, 12 PGND (power), 13 NC, 14 IN (power), 15 IN (power), 16 NC, 17 OUT (power), 18 OUT (power), 19 NC, 20 NC, 21 NC, 22 NC, 23 NC, 24 NC

## LM2575HVM-15
designator U?
Simple Switcher 1A Step Down Voltage Regulator; Published: 15-Apr-2002; LatestRevisionDate: 13-Apr-2006; LatestRevisionNote: IPC-7351 Footprint Added.; DatasheetVersion: May-1999; PackageVersion: 2000; PackageReference: M24B; Publisher: Altium Limited; PackageDescription: 24-Pin Small Outline Integrated Circuit 1.27 mm Pitch; ComponentLink1Description: Manufacturer Link; ComponentLink1URL: http://www.national.com/; ComponentLink2Description: Datasheet; ComponentLink2URL: http://www.national.com/ds.cgi/LM/LM1575.pdf; ComponentLink3Description: URL Link1; ComponentLink3URL: http://www.national.com/pf/LM/LM2575HV.html
footprint M24B_N (SOIC, 24-Leads, Body 15.4x7.5mm, Pitch 1.27mm, IPC Medium Density)
footprint M24B_L (SOIC, 24-Leads, Body 15.4x7.5mm, Pitch 1.27mm, IPC High Density)
footprint M24B_M (SOIC, 24-Leads, Body 15.4x7.5mm, Pitch 1.27mm, IPC Low Density)
3D model M24B (24-Pin Small Outline Integrated Circuit 1.27 mm Pitch)
pins: 1 PGND (power), 2 NC, 3 NC, 4 NC, 5 NC, 6 NC, 7 FB (in), 8 SGND (power), 9 NC, 10 ~{ON/OFF} (in), 11 NC, 12 PGND (power), 13 NC, 14 IN (power), 15 IN (power), 16 NC, 17 OUT (power), 18 OUT (power), 19 NC, 20 NC, 21 NC, 22 NC, 23 NC, 24 NC

## LM2575HVM-ADJ
designator U?
Simple Switcher 1A Step Down Voltage Regulator; Published: 15-Apr-2002; LatestRevisionDate: 13-Apr-2006; LatestRevisionNote: IPC-7351 Footprint Added.; DatasheetVersion: May-1999; PackageVersion: 2000; PackageReference: M24B; Publisher: Altium Limited; PackageDescription: 24-Pin Small Outline Integrated Circuit 1.27 mm Pitch; ComponentLink1Description: Manufacturer Link; ComponentLink1URL: http://www.national.com/; ComponentLink2Description: Datasheet; ComponentLink2URL: http://www.national.com/ds.cgi/LM/LM1575.pdf; ComponentLink3Description: URL Link1; ComponentLink3URL: http://www.national.com/pf/LM/LM2575HV.html
footprint M24B_N (SOIC, 24-Leads, Body 15.4x7.5mm, Pitch 1.27mm, IPC Medium Density)
footprint M24B_L (SOIC, 24-Leads, Body 15.4x7.5mm, Pitch 1.27mm, IPC High Density)
footprint M24B_M (SOIC, 24-Leads, Body 15.4x7.5mm, Pitch 1.27mm, IPC Low Density)
3D model M24B (24-Pin Small Outline Integrated Circuit 1.27 mm Pitch)
pins: 1 PGND (power), 2 NC, 3 NC, 4 NC, 5 NC, 6 NC, 7 FB (in), 8 SGND (power), 9 NC, 10 ~{ON/OFF} (in), 11 NC, 12 PGND (power), 13 NC, 14 IN (power), 15 IN (power), 16 NC, 17 OUT (power), 18 OUT (power), 19 NC, 20 NC, 21 NC, 22 NC, 23 NC, 24 NC

## LM2575HVN-5.0
designator U?
Simple Switcher 1A Step Down Voltage Regulator; Published: 15-Apr-2002; LatestRevisionDate: 06-Jun-2005; LatestRevisionNote: Stylized 3D Model Added.; DatasheetVersion: May-1999; PackageVersion: 2000; PackageReference: N16A; Publisher: Altium Limited; PackageDescription: DIP; 16 Leads; Row Spacing 7.62 mm; Pitch 2.54 mm; ComponentLink1Description: Manufacturer Link; ComponentLink1URL: http://www.national.com/; ComponentLink2Description: Datasheet; ComponentLink2URL: http://www.national.com/ds.cgi/LM/LM1575.pdf; ComponentLink3Description: URL Link1; ComponentLink3URL: http://www.national.com/pf/LM/LM2575HV.html
footprint N16A (DIP; 16 Leads; Row Spacing 7.62 mm; Pitch 2.54 mm)
3D model N16A (DIP; 16 Leads; Row Spacing 7.62 mm; Pitch 2.54 mm)
pins: 1 NC, 2 NC, 3 OUT (power), 4 NC, 5 GND (power), 6 NC, 7 FB (in), 8 NC, 9 ~{ON/OFF} (in), 10 NC, 11 GND (power), 12 GND (power), 13 GND (power), 14 GND (power), 15 NC, 16 IN (power)

## LM2575HVN-12
designator U?
Simple Switcher 1A Step Down Voltage Regulator; Published: 15-Apr-2002; LatestRevisionDate: 06-Jun-2005; LatestRevisionNote: Stylized 3D Model Added.; DatasheetVersion: May-1999; PackageVersion: 2000; PackageReference: N16A; Publisher: Altium Limited; PackageDescription: DIP; 16 Leads; Row Spacing 7.62 mm; Pitch 2.54 mm; ComponentLink1Description: Manufacturer Link; ComponentLink1URL: http://www.national.com/; ComponentLink2Description: Datasheet; ComponentLink2URL: http://www.national.com/ds.cgi/LM/LM1575.pdf; ComponentLink3Description: URL Link1; ComponentLink3URL: http://www.national.com/pf/LM/LM2575HV.html
footprint N16A (DIP; 16 Leads; Row Spacing 7.62 mm; Pitch 2.54 mm)
3D model N16A (DIP; 16 Leads; Row Spacing 7.62 mm; Pitch 2.54 mm)
pins: 1 NC, 2 NC, 3 OUT (power), 4 NC, 5 GND (power), 6 NC, 7 FB (in), 8 NC, 9 ~{ON/OFF} (in), 10 NC, 11 GND (power), 12 GND (power), 13 GND (power), 14 GND (power), 15 NC, 16 IN (power)

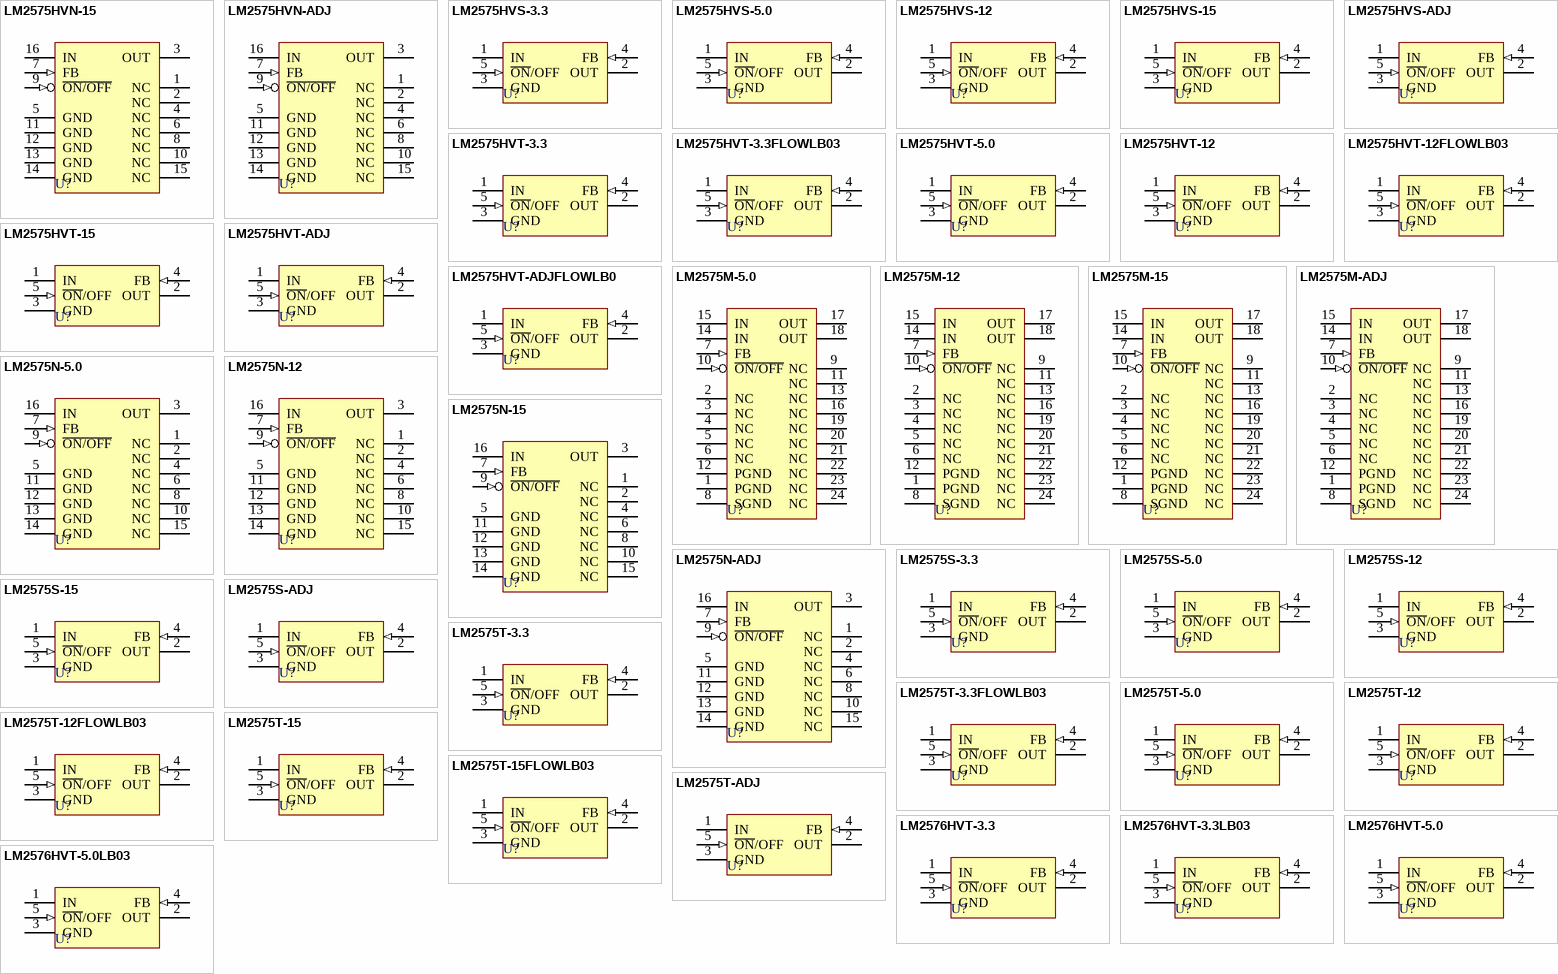
[diagram p1: symbols LM2575HVN-15 to LM2576HVT-5.0LB03]

## LM2575HVN-15
designator U?
Simple Switcher 1A Step Down Voltage Regulator; Published: 15-Apr-2002; LatestRevisionDate: 06-Jun-2005; LatestRevisionNote: Stylized 3D Model Added.; DatasheetVersion: May-1999; PackageVersion: 2000; PackageReference: N16A; Publisher: Altium Limited; PackageDescription: DIP; 16 Leads; Row Spacing 7.62 mm; Pitch 2.54 mm; ComponentLink1Description: Manufacturer Link; ComponentLink1URL: http://www.national.com/; ComponentLink2Description: Datasheet; ComponentLink2URL: http://www.national.com/ds.cgi/LM/LM1575.pdf; ComponentLink3Description: URL Link1; ComponentLink3URL: http://www.national.com/pf/LM/LM2575HV.html
footprint N16A (DIP; 16 Leads; Row Spacing 7.62 mm; Pitch 2.54 mm)
3D model N16A (DIP; 16 Leads; Row Spacing 7.62 mm; Pitch 2.54 mm)
pins: 1 NC, 2 NC, 3 OUT (power), 4 NC, 5 GND (power), 6 NC, 7 FB (in), 8 NC, 9 ~{ON/OFF} (in), 10 NC, 11 GND (power), 12 GND (power), 13 GND (power), 14 GND (power), 15 NC, 16 IN (power)

## LM2575HVN-ADJ
designator U?
Simple Switcher 1A Step Down Voltage Regulator; Published: 15-Apr-2002; LatestRevisionDate: 06-Jun-2005; LatestRevisionNote: Stylized 3D Model Added.; DatasheetVersion: May-1999; PackageVersion: 2000; PackageReference: N16A; Publisher: Altium Limited; PackageDescription: DIP; 16 Leads; Row Spacing 7.62 mm; Pitch 2.54 mm; ComponentLink1Description: Manufacturer Link; ComponentLink1URL: http://www.national.com/; ComponentLink2Description: Datasheet; ComponentLink2URL: http://www.national.com/ds.cgi/LM/LM1575.pdf; ComponentLink3Description: URL Link1; ComponentLink3URL: http://www.national.com/pf/LM/LM2575HV.html
footprint N16A (DIP; 16 Leads; Row Spacing 7.62 mm; Pitch 2.54 mm)
3D model N16A (DIP; 16 Leads; Row Spacing 7.62 mm; Pitch 2.54 mm)
pins: 1 NC, 2 NC, 3 OUT (power), 4 NC, 5 GND (power), 6 NC, 7 FB (in), 8 NC, 9 ~{ON/OFF} (in), 10 NC, 11 GND (power), 12 GND (power), 13 GND (power), 14 GND (power), 15 NC, 16 IN (power)

## LM2575HVS-3.3
designator U?
Simple Switcher 1A Step Down Voltage Regulator; Note: Tab is connected to GND; Published: 15-Apr-2002; DatasheetVersion: May-1999; PackageReference: TS5B; Publisher: Altium Limited; PackageDescription: D2-PAK; 5 Leads; Body 14.4 (inc. leads) x 10.4 mm (LxW max); ComponentLink1Description: Manufacturer Link; ComponentLink1URL: http://www.national.com/; ComponentLink2Description: Datasheet; ComponentLink2URL: http://www.national.com/ds.cgi/LM/LM1575.pdf; ComponentLink3Description: URL Link1; ComponentLink3URL: http://www.national.com/pf/LM/LM2575HV.html
footprint TS5B (D2-PAK; 5 Leads; Body 14.4 (inc. leads) x 10.4 mm (LxW max))
pins: 1 IN (power), 2 OUT (power), 3 GND (power), 4 FB (in), 5 ~{ON}/OFF (in)

## LM2575HVS-5.0
designator U?
Simple Switcher 1A Step Down Voltage Regulator; Note: Tab is connected to GND; Published: 15-Apr-2002; DatasheetVersion: May-1999; PackageReference: TS5B; Publisher: Altium Limited; PackageDescription: D2-PAK; 5 Leads; Body 14.4 (inc. leads) x 10.4 mm (LxW max); ComponentLink1Description: Manufacturer Link; ComponentLink1URL: http://www.national.com/; ComponentLink2Description: Datasheet; ComponentLink2URL: http://www.national.com/ds.cgi/LM/LM1575.pdf; ComponentLink3Description: URL Link1; ComponentLink3URL: http://www.national.com/pf/LM/LM2575HV.html
footprint TS5B (D2-PAK; 5 Leads; Body 14.4 (inc. leads) x 10.4 mm (LxW max))
pins: 1 IN (power), 2 OUT (power), 3 GND (power), 4 FB (in), 5 ~{ON}/OFF (in)

## LM2575HVS-12
designator U?
Simple Switcher 1A Step Down Voltage Regulator; Note: Tab is connected to GND; Published: 15-Apr-2002; DatasheetVersion: May-1999; PackageReference: TS5B; Publisher: Altium Limited; PackageDescription: D2-PAK; 5 Leads; Body 14.4 (inc. leads) x 10.4 mm (LxW max); ComponentLink1Description: Manufacturer Link; ComponentLink1URL: http://www.national.com/; ComponentLink2Description: Datasheet; ComponentLink2URL: http://www.national.com/ds.cgi/LM/LM1575.pdf; ComponentLink3Description: URL Link1; ComponentLink3URL: http://www.national.com/pf/LM/LM2575HV.html
footprint TS5B (D2-PAK; 5 Leads; Body 14.4 (inc. leads) x 10.4 mm (LxW max))
pins: 1 IN (power), 2 OUT (power), 3 GND (power), 4 FB (in), 5 ~{ON}/OFF (in)

## LM2575HVS-15
designator U?
Simple Switcher 1A Step Down Voltage Regulator; Note: Tab is connected to GND; Published: 15-Apr-2002; DatasheetVersion: May-1999; PackageReference: TS5B; Publisher: Altium Limited; PackageDescription: D2-PAK; 5 Leads; Body 14.4 (inc. leads) x 10.4 mm (LxW max); ComponentLink1Description: Manufacturer Link; ComponentLink1URL: http://www.national.com/; ComponentLink2Description: Datasheet; ComponentLink2URL: http://www.national.com/ds.cgi/LM/LM1575.pdf; ComponentLink3Description: URL Link1; ComponentLink3URL: http://www.national.com/pf/LM/LM2575HV.html
footprint TS5B (D2-PAK; 5 Leads; Body 14.4 (inc. leads) x 10.4 mm (LxW max))
pins: 1 IN (power), 2 OUT (power), 3 GND (power), 4 FB (in), 5 ~{ON}/OFF (in)

## LM2575HVS-ADJ
designator U?
Simple Switcher 1A Step Down Voltage Regulator; Note: Tab is connected to GND; Published: 15-Apr-2002; DatasheetVersion: May-1999; PackageReference: TS5B; Publisher: Altium Limited; PackageDescription: D2-PAK; 5 Leads; Body 14.4 (inc. leads) x 10.4 mm (LxW max); ComponentLink1Description: Manufacturer Link; ComponentLink1URL: http://www.national.com/; ComponentLink2Description: Datasheet; ComponentLink2URL: http://www.national.com/ds.cgi/LM/LM1575.pdf; ComponentLink3Description: URL Link1; ComponentLink3URL: http://www.national.com/pf/LM/LM2575HV.html
footprint TS5B (D2-PAK; 5 Leads; Body 14.4 (inc. leads) x 10.4 mm (LxW max))
pins: 1 IN (power), 2 OUT (power), 3 GND (power), 4 FB (in), 5 ~{ON}/OFF (in)

## LM2575HVT-3.3
designator U?
Simple Switcher 1A Step Down Voltage Regulator; Note: Tab is connected to GND; Published: 15-Apr-2002; DatasheetVersion: May-1999; PackageVersion: 2000; PackageReference: T05A; Publisher: Altium Limited; PackageDescription: TO, Thru-Hole, Vertical, Heatsink Mounted; 5 In-Line Leads; Pitch 1.70 mm; Code_JEDEC: TS-001-AA; ComponentLink1Description: Manufacturer Link; ComponentLink1URL: http://www.national.com/; ComponentLink2Description: Datasheet; ComponentLink2URL: http://www.national.com/ds.cgi/LM/LM1575.pdf; ComponentLink3Description: URL Link1; ComponentLink3URL: http://www.national.com/pf/LM/LM2575HV.html
footprint T05A (TO, Thru-Hole, Vertical, Heatsink Mounted; 5 In-Line Leads; Pitch 1.70 mm)
pins: 1 IN (power), 2 OUT (power), 3 GND (power), 4 FB (in), 5 ~{ON}/OFF (in)

## LM2575HVT-3.3FLOWLB03
designator U?
Simple Switcher 1A Step Down Voltage Regulator; Note: Tab is connected to GND; Published: 15-Apr-2002; DatasheetVersion: May-1999; PackageVersion: 2000; PackageReference: T05D; Publisher: Altium Limited; PackageDescription: TO, Thru-Hole, Vertical, Heatsink Mounted; 5 Bent Staggered Leads; Pitch 1.7 mm; ComponentLink1Description: Manufacturer Link; ComponentLink1URL: http://www.national.com/; ComponentLink2Description: Datasheet; ComponentLink2URL: http://www.national.com/ds.cgi/LM/LM1575.pdf; ComponentLink3Description: URL Link1; ComponentLink3URL: http://www.national.com/pf/LM/LM2575HV.html
footprint T05D (TO, Thru-Hole, Vertical, Heatsink Mounted; 5 Bent Staggered Leads; Pitch 1.7 mm)
pins: 1 IN (power), 2 OUT (power), 3 GND (power), 4 FB (in), 5 ~{ON}/OFF (in)

## LM2575HVT-5.0
designator U?
Simple Switcher 1A Step Down Voltage Regulator; Note: Tab is connected to GND; Published: 15-Apr-2002; DatasheetVersion: May-1999; PackageVersion: 2000; PackageReference: T05D; Publisher: Altium Limited; PackageDescription: TO, Thru-Hole, Vertical, Heatsink Mounted; 5 Bent Staggered Leads; Pitch 1.7 mm; ComponentLink1Description: Manufacturer Link; ComponentLink1URL: http://www.national.com/; ComponentLink2Description: Datasheet; ComponentLink2URL: http://www.national.com/ds.cgi/LM/LM1575.pdf; ComponentLink3Description: URL Link1; ComponentLink3URL: http://www.national.com/pf/LM/LM2575HV.html
footprint T05D (TO, Thru-Hole, Vertical, Heatsink Mounted; 5 Bent Staggered Leads; Pitch 1.7 mm)
pins: 1 IN (power), 2 OUT (power), 3 GND (power), 4 FB (in), 5 ~{ON}/OFF (in)

## LM2575HVT-12
designator U?
Simple Switcher 1A Step Down Voltage Regulator; Note: Tab is connected to GND; Published: 15-Apr-2002; DatasheetVersion: May-1999; PackageVersion: 2000; PackageReference: T05A; Publisher: Altium Limited; PackageDescription: TO, Thru-Hole, Vertical, Heatsink Mounted; 5 In-Line Leads; Pitch 1.70 mm; Code_JEDEC: TS-001-AA; ComponentLink1Description: Manufacturer Link; ComponentLink1URL: http://www.national.com/; ComponentLink2Description: Datasheet; ComponentLink2URL: http://www.national.com/ds.cgi/LM/LM1575.pdf; ComponentLink3Description: URL Link1; ComponentLink3URL: http://www.national.com/pf/LM/LM2575HV.html
footprint T05A (TO, Thru-Hole, Vertical, Heatsink Mounted; 5 In-Line Leads; Pitch 1.70 mm)
pins: 1 IN (power), 2 OUT (power), 3 GND (power), 4 FB (in), 5 ~{ON}/OFF (in)

## LM2575HVT-12FLOWLB03
designator U?
Simple Switcher 1A Step Down Voltage Regulator; Note: Tab is connected to GND; Published: 15-Apr-2002; DatasheetVersion: May-1999; PackageVersion: 2000; PackageReference: T05D; Publisher: Altium Limited; PackageDescription: TO, Thru-Hole, Vertical, Heatsink Mounted; 5 Bent Staggered Leads; Pitch 1.7 mm; ComponentLink1Description: Manufacturer Link; ComponentLink1URL: http://www.national.com/; ComponentLink2Description: Datasheet; ComponentLink2URL: http://www.national.com/ds.cgi/LM/LM1575.pdf; ComponentLink3Description: URL Link1; ComponentLink3URL: http://www.national.com/pf/LM/LM2575HV.html
footprint T05D (TO, Thru-Hole, Vertical, Heatsink Mounted; 5 Bent Staggered Leads; Pitch 1.7 mm)
pins: 1 IN (power), 2 OUT (power), 3 GND (power), 4 FB (in), 5 ~{ON}/OFF (in)

## LM2575HVT-15
designator U?
Simple Switcher 1A Step Down Voltage Regulator; Note: Tab is connected to GND; Published: 15-Apr-2002; DatasheetVersion: May-1999; PackageVersion: 2000; PackageReference: T05A; Publisher: Altium Limited; PackageDescription: TO, Thru-Hole, Vertical, Heatsink Mounted; 5 In-Line Leads; Pitch 1.70 mm; Code_JEDEC: TS-001-AA; ComponentLink1Description: Manufacturer Link; ComponentLink1URL: http://www.national.com/; ComponentLink2Description: Datasheet; ComponentLink2URL: http://www.national.com/ds.cgi/LM/LM1575.pdf; ComponentLink3Description: URL Link1; ComponentLink3URL: http://www.national.com/pf/LM/LM2575HV.html
footprint T05A (TO, Thru-Hole, Vertical, Heatsink Mounted; 5 In-Line Leads; Pitch 1.70 mm)
pins: 1 IN (power), 2 OUT (power), 3 GND (power), 4 FB (in), 5 ~{ON}/OFF (in)

## LM2575HVT-ADJ
designator U?
Simple Switcher 1A Step Down Voltage Regulator; Note: Tab is connected to GND; Published: 15-Apr-2002; DatasheetVersion: May-1999; PackageVersion: 2000; PackageReference: T05A; Publisher: Altium Limited; PackageDescription: TO, Thru-Hole, Vertical, Heatsink Mounted; 5 In-Line Leads; Pitch 1.70 mm; Code_JEDEC: TS-001-AA; ComponentLink1Description: Manufacturer Link; ComponentLink1URL: http://www.national.com/; ComponentLink2Description: Datasheet; ComponentLink2URL: http://www.national.com/ds.cgi/LM/LM1575.pdf; ComponentLink3Description: URL Link1; ComponentLink3URL: http://www.national.com/pf/LM/LM2575HV.html
footprint T05A (TO, Thru-Hole, Vertical, Heatsink Mounted; 5 In-Line Leads; Pitch 1.70 mm)
pins: 1 IN (power), 2 OUT (power), 3 GND (power), 4 FB (in), 5 ~{ON}/OFF (in)

## LM2575HVT-ADJFLOWLB0
designator U?
Simple Switcher 1A Step Down Voltage Regulator; Note: Tab is connected to GND; Published: 15-Apr-2002; DatasheetVersion: May-1999; PackageVersion: 2000; PackageReference: T05D; Publisher: Altium Limited; PackageDescription: TO, Thru-Hole, Vertical, Heatsink Mounted; 5 Bent Staggered Leads; Pitch 1.7 mm; ComponentLink1Description: Manufacturer Link; ComponentLink1URL: http://www.national.com/; ComponentLink2Description: Datasheet; ComponentLink2URL: http://www.national.com/ds.cgi/LM/LM1575.pdf; ComponentLink3Description: URL Link1; ComponentLink3URL: http://www.national.com/pf/LM/LM2575HV.html
footprint T05D (TO, Thru-Hole, Vertical, Heatsink Mounted; 5 Bent Staggered Leads; Pitch 1.7 mm)
pins: 1 IN (power), 2 OUT (power), 3 GND (power), 4 FB (in), 5 ~{ON}/OFF (in)

## LM2575M-5.0
designator U?
Simple Switcher 1A Step Down Voltage Regulator; Published: 15-Apr-2002; LatestRevisionDate: 13-Apr-2006; LatestRevisionNote: IPC-7351 Footprint Added.; DatasheetVersion: May-1999; PackageVersion: 2000; PackageReference: M24B; Publisher: Altium Limited; PackageDescription: 24-Pin Small Outline Integrated Circuit 1.27 mm Pitch; ComponentLink1Description: Manufacturer Link; ComponentLink1URL: http://www.national.com/; ComponentLink2Description: Datasheet; ComponentLink2URL: http://www.national.com/ds.cgi/LM/LM1575.pdf; ComponentLink3Description: URL Link1; ComponentLink3URL: http://www.national.com/pf/LM/LM2575.html
footprint M24B_N (SOIC, 24-Leads, Body 15.4x7.5mm, Pitch 1.27mm, IPC Medium Density)
footprint M24B_L (SOIC, 24-Leads, Body 15.4x7.5mm, Pitch 1.27mm, IPC High Density)
footprint M24B_M (SOIC, 24-Leads, Body 15.4x7.5mm, Pitch 1.27mm, IPC Low Density)
3D model M24B (24-Pin Small Outline Integrated Circuit 1.27 mm Pitch)
pins: 1 PGND (power), 2 NC, 3 NC, 4 NC, 5 NC, 6 NC, 7 FB (in), 8 SGND (power), 9 NC, 10 ~{ON/OFF} (in), 11 NC, 12 PGND (power), 13 NC, 14 IN (power), 15 IN (power), 16 NC, 17 OUT (power), 18 OUT (power), 19 NC, 20 NC, 21 NC, 22 NC, 23 NC, 24 NC